# EAGLE library part MCIMX6Q7CVT08AD (library circuit_tree)
IC
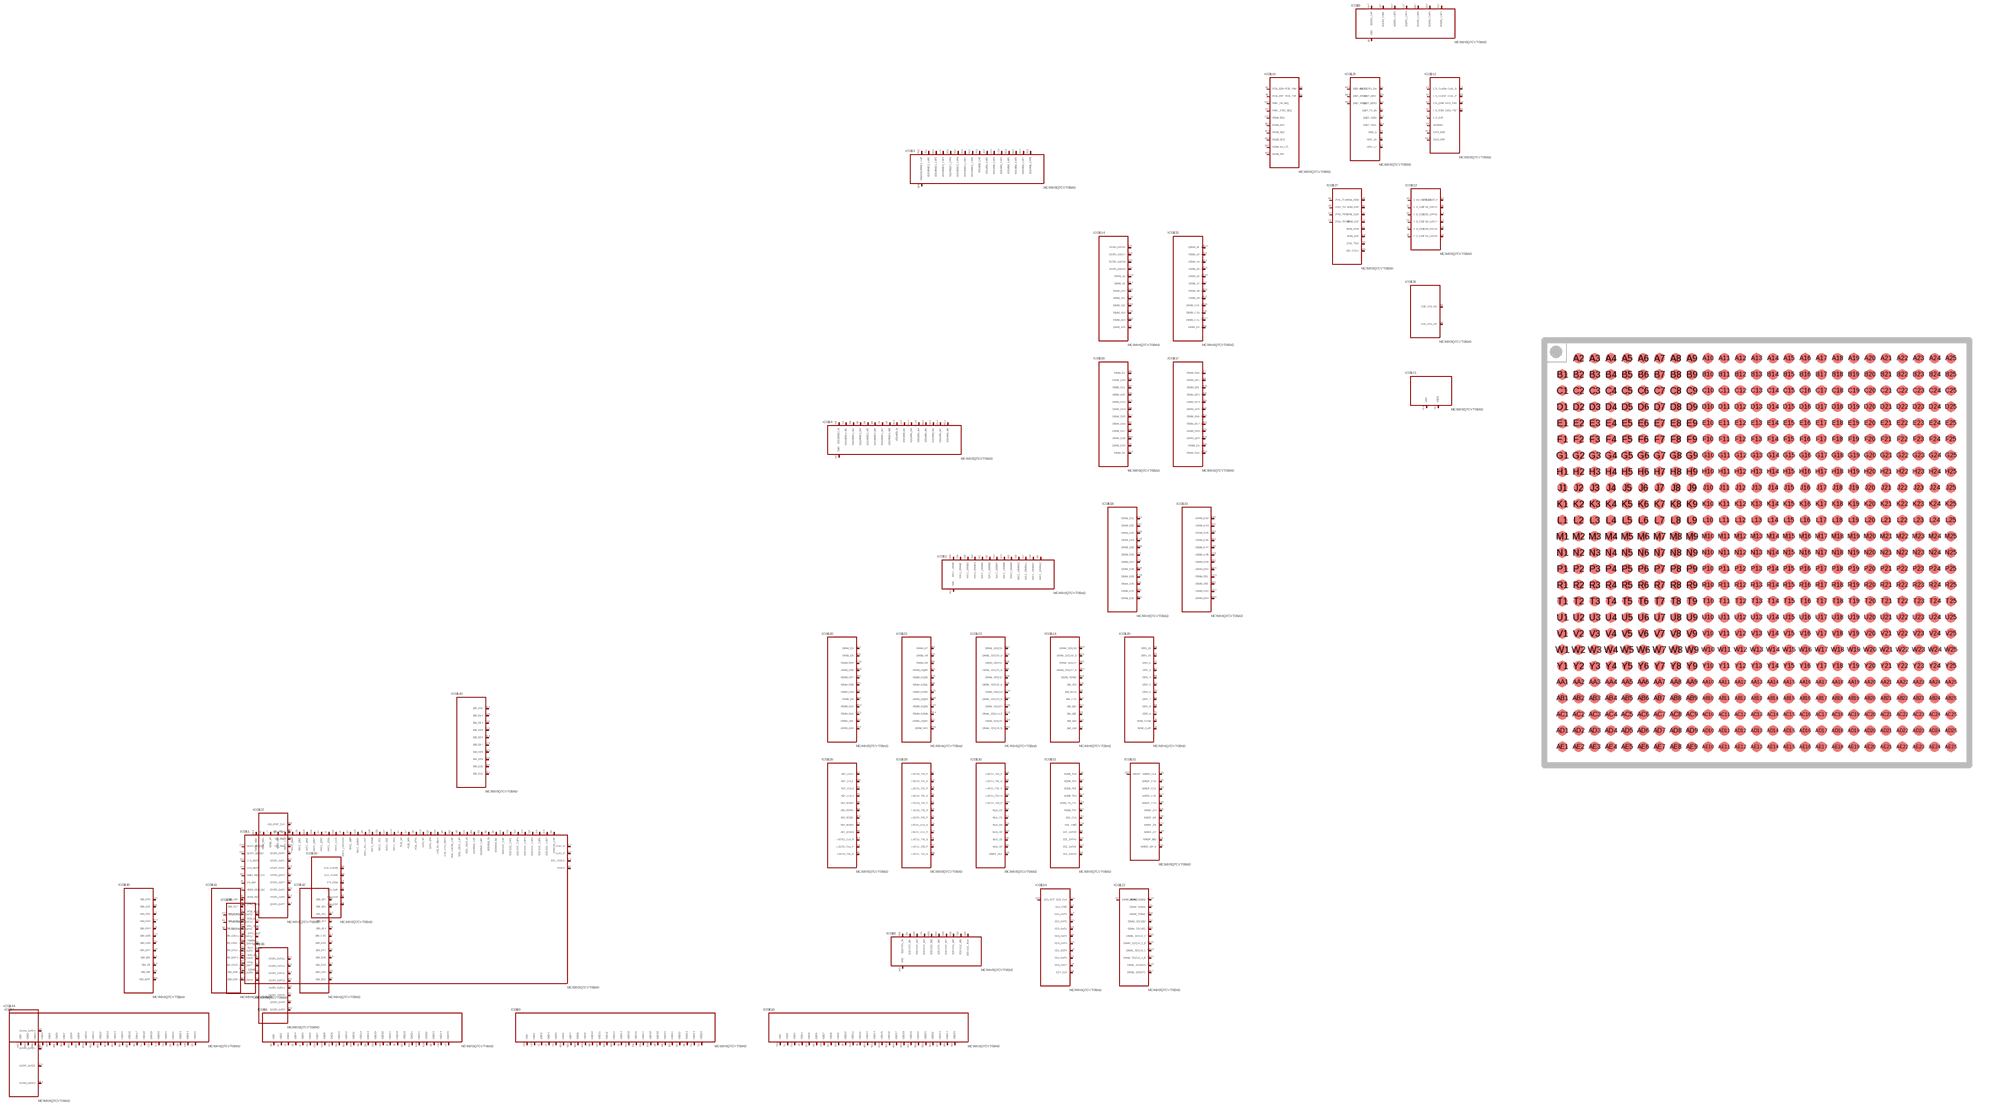
[diagram p10: symbol with the pads of BGA624N80P25X25_210X210X20; footprint BGA624N80P25X25_210X210X20]

Designator prefix IC; gates G$1=MCIMX6Q7CVT08AD G$2=MCIMX6Q7CVT08AD2 G$3=MCIMX6Q7CVT08AD3 G$4=MCIMX6Q7CVT08AD4 G$5=MCIMX6Q7CVT08AD5 G$6=MCIMX6Q7CVT08AD6 G$7=MCIMX6Q7CVT08AD7 G$8=MCIMX6Q7CVT08AD8 G$9=MCIMX6Q7CVT08AD9 G$10=MCIMX6Q7CVT08AD10 G$11=MCIMX6Q7CVT08AD11 G$12=MCIMX6Q7CVT08AD12 G$13=MCIMX6Q7CVT08AD13 G$14=MCIMX6Q7CVT08AD14 G$15=MCIMX6Q7CVT08AD15 G$16=MCIMX6Q7CVT08AD16 G$17=MCIMX6Q7CVT08AD17 G$18=MCIMX6Q7CVT08AD18 G$19=MCIMX6Q7CVT08AD19 G$20=MCIMX6Q7CVT08AD20 G$21=MCIMX6Q7CVT08AD21 G$22=MCIMX6Q7CVT08AD22 G$23=MCIMX6Q7CVT08AD23 G$24=MCIMX6Q7CVT08AD24 G$25=MCIMX6Q7CVT08AD25 G$26=MCIMX6Q7CVT08AD26 G$27=MCIMX6Q7CVT08AD27 G$28=MCIMX6Q7CVT08AD28 G$29=MCIMX6Q7CVT08AD29 G$30=MCIMX6Q7CVT08AD30 G$31=MCIMX6Q7CVT08AD31 G$32=MCIMX6Q7CVT08AD32 G$33=MCIMX6Q7CVT08AD33 G$34=MCIMX6Q7CVT08AD34 G$35=MCIMX6Q7CVT08AD35 G$36=MCIMX6Q7CVT08AD36 G$37=MCIMX6Q7CVT08AD37 G$38=MCIMX6Q7CVT08AD38 G$39=MCIMX6Q7CVT08AD39 G$40=MCIMX6Q7CVT08AD40 G$41=MCIMX6Q7CVT08AD41 G$42=MCIMX6Q7CVT08AD42 G$43=MCIMX6Q7CVT08AD43 G$44=MCIMX6Q7CVT08AD44

## MCIMX6Q7CVT08AD  [BGA624N80P25X25_210X210X20]
A2  G$1:PCIE_REXT  pas
A3  G$32:PCIE_TXM  pas
A4  G$4:GND  pas
A5  G$1:FA_ANA  pas
A6  G$35:USB_OTG_DP  pas
A7  G$1:XTALI  pas
A8  G$5:GND  pas
A9  G$30:MLB_SN  pas
A10  G$30:MLB_DP  pas
A11  G$30:MLB_CN  pas
A12  G$12:SATA_TXP  pas
A13  G$2:GND  pas
A14  G$12:SATA_RXM  pas
A15  G$34:SD3_DAT2  pas
A16  G$30:NANDF_ALE  pas
A17  G$31:NANDF_CS2  pas
A19  G$31:NANDF_D4  pas
A22  G$33:SD2_DATA0  pas
A23  G$33:SD2_DATA2  pas
A24  G$33:RGMII_TD3  pas
A25  G$3:GND  pas
AA1  G$30:LVDS1_TX1_P  pas
AA2  G$29:LVDS1_TX1_N  pas
AA3  G$30:LVDS1_TX3_N  pas
AA4  G$30:LVDS1_TX3_P  pas
AA5  G$17:DRAM_D3  pas
AA6  G$16:DRAM_D10  pas
AA7  G$7:GND5  pas
AA8  G$16:DRAM_D17  pas
AA9  G$17:DRAM_D23  pas
AA10  G$6:GND  pas
AA11  G$22:DRAM_SDCKE1  pas
AA12  G$14:DRAM_A14  pas
AA13  G$7:GND  pas
AA14  G$15:DRAM_A2  pas
AA15  G$14:DRAM_A10  pas
AA16  G$7:GND2  pas
AA17  G$18:DRAM_D32  pas
AA18  G$18:DRAM_D33  pas
AA19  G$7:GND3  pas
AA20  G$19:DRAM_D45  pas
AA21  G$20:DRAM_D57  pas
AA22  G$7:GND4  pas
AA23  G$20:DRAM_D61  pas
AA24  G$24:DRAM_SDQS7_B  pas
AA25  G$24:DRAM_SDQS7  pas
AB1  G$30:LVDS1_TX2_N  pas
AB2  G$30:LVDS1_TX2_P  pas
AB3  G$7:GND7  pas
AB4  G$20:DRAM_D6  pas
AB5  G$16:DRAM_D12  pas
AB6  G$16:DRAM_D14  pas
AB7  G$16:DRAM_D16  pas
AB8  G$21:DRAM_DQM2  pas
AB9  G$16:DRAM_D18  pas
AB10  G$23:DRAM_SDQS3_B  pas
AB11  G$17:DRAM_D27  pas
AB12  G$22:DRAM_SDBA2  pas
AB13  G$15:DRAM_A8  pas
AB14  G$14:DRAM_A1  pas
AB15  G$21:DRAM_RAS  pas
AB16  G$24:DRAM_SDWE  pas
AB17  G$22:DRAM_SDODT1  pas
AB18  G$21:DRAM_DQM4  pas
AB19  G$18:DRAM_D38  pas
AB20  G$18:DRAM_D41  pas
AB21  G$18:DRAM_D42  pas
AB22  G$19:DRAM_D52  pas
AB23  G$20:DRAM_D60  pas
AB24  G$7:GND6  pas
AB25  G$20:DRAM_D56  pas
AC1  G$20:DRAM_D4  pas
AC2  G$1:DRAM_VREF  pas
AC3  G$21:DRAM_DQM0  pas
AC4  G$16:DRAM_D2  pas
AC5  G$16:DRAM_D13  pas
AC6  G$21:DRAM_DQM1  pas
AC7  G$16:DRAM_D15  pas
AC8  G$17:DRAM_D22  pas
AC9  G$17:DRAM_D28  pas
AC10  G$23:DRAM_SDQS3  pas
AC11  G$18:DRAM_D31  pas
AC12  G$14:DRAM_A11  pas
AC13  G$15:DRAM_A6  pas
AC14  G$14:DRAM_A0  pas
AC15  G$22:DRAM_SDBA0  pas
AC16  G$22:DRAM_SDODT0  pas
AC17  G$14:DRAM_A13  pas
AC18  G$18:DRAM_D34  pas
AC19  G$18:DRAM_D39  pas
AC20  G$21:DRAM_DQM5  pas
AC21  G$19:DRAM_D47  pas
AC22  G$19:DRAM_D48  pas
AC23  G$19:DRAM_D53  pas
AC24  G$19:DRAM_D51  pas
AC25  G$20:DRAM_D55  pas
AD1  G$20:DRAM_D5  pas
AD2  G$15:DRAM_D0  pas
AD3  G$23:DRAM_SDQS0_B  pas
AD4  G$7:GND13  pas
AD5  G$21:DRAM_D8  pas
AD6  G$23:DRAM_SDQS1  pas
AD7  G$7:GND14  pas
AD8  G$23:DRAM_SDQS2  pas
AD9  G$17:DRAM_D29  pas
AD10  G$7:GND8  pas
AD11  G$17:DRAM_D30  pas
AD12  G$14:DRAM_A12  pas
AD13  G$7:GND9  pas
AD14  G$22:DRAM_SDCLK_1  pas
AD15  G$22:DRAM_SDCLK_0  pas
AD16  G$7:GND10  pas
AD17  G$15:DRAM_CS1  pas
AD18  G$23:DRAM_SDQS4  pas
AD19  G$7:GND11  pas
AD20  G$23:DRAM_SDQS5  pas
AD21  G$19:DRAM_D43  pas
AD22  G$7:GND12  pas
AD23  G$24:DRAM_SDQS6  pas
AD24  G$21:DRAM_DQM6  pas
AD25  G$19:DRAM_D54  pas
AE1  G$7:GND15  pas
AE2  G$16:DRAM_D1  pas
AE3  G$23:DRAM_SDQS0  pas
AE4  G$21:DRAM_D7  pas
AE5  G$21:DRAM_D9  pas
AE6  G$23:DRAM_SDQS1_B  pas
AE7  G$16:DRAM_D11  pas
AE8  G$23:DRAM_SDQS2_B  pas
AE9  G$17:DRAM_D24  pas
AE10  G$21:DRAM_DQM3  pas
AE11  G$17:DRAM_D26  pas
AE12  G$15:DRAM_A9  pas
AE13  G$15:DRAM_A5  pas
AE14  G$22:DRAM_SDCLK_1_B  pas
AE15  G$22:DRAM_SDCLK_0_B  pas
AE16  G$15:DRAM_CAS  pas
AE17  G$1:ZQPAD  pas
AE18  G$23:DRAM_SDQS4_B  pas
AE19  G$18:DRAM_D35  pas
AE20  G$23:DRAM_SDQS5_B  pas
AE21  G$19:DRAM_D46  pas
AE22  G$19:DRAM_D49  pas
AE23  G$24:DRAM_SDQS6_B  pas
AE24  G$19:DRAM_D50  pas
AE25  G$7:GND16  pas
B1  G$32:PCIE_RXM  pas
B2  G$32:PCIE_RXP  pas
B3  G$32:PCIE_TXP  pas
B4  G$7:GND17  pas
B5  G$1:VDD_FA  pas
B6  G$35:USB_OTG_DN  pas
B7  G$1:XTALO  pas
B9  G$30:MLB_SP  pas
B10  G$30:MLB_DN  pas
B11  G$30:MLB_CP  pas
B12  G$12:SATA_TXM  pas
B13  G$34:SD3_CMD  pas
B14  G$12:SATA_RXP  pas
B15  G$34:SD3_DAT3  pas
B16  G$31:NANDF_RB0  pas
B18  G$31:NANDF_D5  pas
B22  G$33:SD2_DATA3  pas
B23  G$32:RGMII_RD1  pas
B24  G$32:RGMII_RD2  pas
B25  G$32:RGMII_RXC  pas
C1  G$7:GND18  pas
C2  G$27:JTAG_TRSTB  pas
C3  G$27:JTAG_TMS  pas
C4  G$7:GND20  pas
C5  G$12:CLK2_N  pas
C6  G$7:GND21  pas
C7  G$1:CLK1_N  pas
C8  G$12:GPANAIO  pas
C9  G$1:RTC_XTALO  pas
C10  G$7:GND19  pas
C11  G$1:POR_B  pas
C12  G$1:BOOT_MODE0  pas
C13  G$34:SD3_DAT5  pas
C14  G$1:SATA_REXT  pas
C15  G$31:NANDF_CLE  pas
C16  G$31:NANDF_CS1  pas
C18  G$31:NANDF_D7  pas
C21  G$33:SD2_CLK  pas
C22  G$33:RGMII_TD0  pas
C23  G$33:RGMII_TX_CTL  pas
C24  G$32:RGMII_RD0  pas
C25  G$42:EIM_D16  pas
D1  G$13:CSI_D1M  pas
D2  G$13:CSI_D1P  pas
D3  G$7:GND22  pas
D4  G$1:CSI_REXT  pas
D5  G$12:CLK2_P  pas
D6  G$7:GND23  pas
D7  G$1:CLK1_P  pas
D8  G$7:GND24  pas
D9  G$1:RTC_XTALI  pas
D10  G$1:USB_H1_VBUS  pas
D11  G$32:PMIC_ON_REQ  pas
D12  G$31:ONOFF  pas
D13  G$34:SD3_DAT4  pas
D14  G$34:SD3_CLK  pas
D15  G$34:SD3_RST  pas
D16  G$31:NANDF_CS3  pas
D21  G$33:RGMII_TXC  pas
D22  G$32:RGMII_RX_CTL  pas
D23  G$32:RGMII_RD3  pas
D24  G$42:EIM_D18  pas
D25  G$43:EIM_D23  pas
E1  G$13:CSI_D2M  pas
E2  G$13:CSI_D2P  pas
E3  G$13:CSI_D0P  pas
E4  G$12:CSI_D0M  pas
E5  G$7:GND25  pas
E6  G$8:GND  pas
E7  G$8:GND2  pas
E8  G$1:NVCC_PLL_OUT  pas
E9  G$1:USB_OTG_VBUS  pas
E11  G$1:TAMPER  pas
E12  G$1:TEST_MODE  pas
E13  G$34:SD3_DAT6  pas
E14  G$34:SD3_DAT0  pas
E15  G$31:NANDF_WP_B  pas
E16  G$34:SD4_CLK  pas
E17  G$31:NANDF_D6  pas
E20  G$33:SD2_DATA1  pas
E21  G$33:RGMII_TD2  pas
E22  G$24:EIM_EB2  pas
E23  G$43:EIM_D22  pas
E24  G$43:EIM_D26  pas
E25  G$43:EIM_D27  pas
F1  G$12:CSI_D3P  pas
F2  G$12:CSI_D3M  pas
F3  G$12:CSI_CLK0P  pas
F4  G$12:CSI_CLK0M  pas
F5  G$8:GND3  pas
F6  G$8:GND4  pas
F7  G$8:GND5  pas
F8  G$8:GND6  pas
F9  G$1:VDDUSB_CAP  pas
F11  G$32:PMIC_STBY_REQ  pas
F12  G$1:BOOT_MODE1  pas
F13  G$34:SD3_DAT7  pas
F14  G$34:SD3_DAT1  pas
F15  G$31:NANDF_CS0  pas
F19  G$33:SD2_CMD  pas
F20  G$33:RGMII_TD1  pas
F21  G$42:EIM_D17  pas
F22  G$43:EIM_D24  pas
F23  G$24:EIM_EB3  pas
F24  G$42:EIM_A22  pas
F25  G$42:EIM_A24  pas
G1  G$39:DSI_D0P  pas
G2  G$39:DSI_D0M  pas
G3  G$8:GND9  pas
G4  G$1:DSI_REXT  pas
G5  G$27:JTAG_TDI  pas
G6  G$27:JTAG_TDO  pas
G7  G$1:PCIE_VPH  pas
G8  G$1:PCIE_VPTX  pas
G9  G$1:VDD_SNVS_CAP  pas
G10  G$8:GND7  pas
G11  G$1:VDD_SNVS_IN  pas
G12  G$1:SATA_VPH  pas
G13  G$1:SATA_VP  pas
G14  G$1:NVCC_SD3  pas
G15  G$1:NVCC_NANDF  pas
G16  G$1:NVCC_SD1  pas
G17  G$1:NVCC_SD2  pas
G18  G$1:NVCC_RGMII  pas
G19  G$8:GND8  pas
G20  G$42:EIM_D20  pas
G21  G$42:EIM_D19  pas
G22  G$43:EIM_D25  pas
G23  G$43:EIM_D28  pas
G24  G$41:EIM_A17  pas
G25  G$41:EIM_A19  pas
H1  G$39:DSI_D1P  pas
H2  G$39:DSI_D1M  pas
H3  G$39:DSI_CLK0M  pas
H4  G$39:DSI_CLK0P  pas
H5  G$27:JTAG_TCK  pas
H6  G$1:JTAG_MOD  pas
H7  G$1:PCIE_VP  pas
H8  G$8:GND13  pas
H9  G$1:VDDHIGH_IN  pas
H10  G$1:VDDHIGH_CAP  pas
H11  G$3:VDDARM23_CAP  pas
H12  G$8:GND10  pas
H13  G$3:VDDARM_CAP  pas
H14  G$4:VDDARM_IN  pas
H15  G$8:GND11  pas
H16  G$6:VDDSOC_IN  pas
H17  G$5:VDDPU_CAP  pas
H18  G$8:GND12  pas
H19  G$24:EIM_A25  pas
H20  G$42:EIM_D21  pas
H21  G$43:EIM_D31  pas
H22  G$42:EIM_A20  pas
H23  G$42:EIM_A21  pas
H24  G$42:EIM_CS0  pas
H25  G$41:EIM_A16  pas
J1  G$1:HDMI_REF  pas
J2  G$8:GND17  pas
J3  G$27:HDMI_D1M  pas
J4  G$27:HDMI_D1P  pas
J5  G$26:HDMI_CLKM  pas
J6  G$26:HDMI_CLKP  pas
J7  G$1:NVCC_JTAG  pas
J8  G$8:GND18  pas
J9  G$1:VDDHIGH_IN2  pas
J10  G$1:VDDHIGH_CAP2  pas
J11  G$3:VDDARM23_CAP2  pas
J12  G$8:GND14  pas
J13  G$3:VDDARM_CAP2  pas
J14  G$4:VDDARM_IN2  pas
J15  G$8:GND15  pas
J16  G$6:VDDSOC_IN2  pas
J17  G$5:VDDPU_CAP2  pas
J18  G$8:GND16  pas
J19  G$43:EIM_D29  pas
J20  G$43:EIM_D30  pas
J21  G$42:EIM_A23  pas
J22  G$41:EIM_A18  pas
J23  G$24:EIM_CS1  pas
J24  G$40:EIM_OE  pas
J25  G$40:EIM_DA1  pas
K1  G$1:HDMI_HPD  pas
K2  G$1:HDMI_DDCCEC  pas
K3  G$27:HDMI_D2M  pas
K4  G$27:HDMI_D2P  pas
K5  G$27:HDMI_D0M  pas
K6  G$27:HDMI_D0P  pas
K7  G$1:NVCC_MIPI  pas
K8  G$8:GND23  pas
K9  G$4:VDDARM23_IN  pas
K10  G$8:GND19  pas
K11  G$3:VDDARM23_CAP3  pas
K12  G$8:GND20  pas
K13  G$3:VDDARM_CAP3  pas
K14  G$4:VDDARM_IN3  pas
K15  G$8:GND21  pas
K16  G$6:VDDSOC_IN3  pas
K17  G$5:VDDPU_CAP3  pas
K18  G$8:GND22  pas
K19  G$1:NVCC_EIM0  pas
K20  G$40:EIM_RW  pas
K21  G$40:EIM_EB0  pas
K22  G$24:EIM_LBA  pas
K23  G$24:EIM_EB1  pas
K24  G$40:EIM_DA3  pas
K25  G$40:EIM_DA6  pas
L1  G$36:CSI0_DAT13  pas
L2  G$9:GND3  pas
L3  G$13:CSI0_DAT17  pas
L4  G$13:CSI0_DAT16  pas
L5  G$9:GND4  pas
L6  G$13:CSI0_DAT19  pas
L7  G$1:HDMI_VP  pas
L8  G$9:GND5  pas
L9  G$4:VDDARM23_IN2  pas
L10  G$8:GND24  pas
L11  G$3:VDDARM23_CAP4  pas
L12  G$8:GND25  pas
L13  G$3:VDDARM_CAP4  pas
L14  G$4:VDDARM_IN4  pas
L15  G$9:GND  pas
L16  G$6:VDDSOC_IN4  pas
L17  G$5:VDDPU_CAP4  pas
L18  G$9:GND2  pas
L19  G$1:NVCC_EIM1  pas
L20  G$40:EIM_DA0  pas
L21  G$40:EIM_DA2  pas
L22  G$40:EIM_DA4  pas
L23  G$40:EIM_DA5  pas
L24  G$41:EIM_DA8  pas
L25  G$40:EIM_DA7  pas
M1  G$36:CSI0_DAT10  pas
M2  G$36:CSI0_DAT12  pas
M3  G$36:CSI0_DAT11  pas
M4  G$13:CSI0_DAT14  pas
M5  G$13:CSI0_DAT15  pas
M6  G$13:CSI0_DAT18  pas
M7  G$1:HDMI_VPH  pas
M8  G$9:GND10  pas
M9  G$4:VDDARM23_IN3  pas
M10  G$9:GND6  pas
M11  G$3:VDDARM23_CAP5  pas
M12  G$9:GND7  pas
M13  G$3:VDDARM_CAP5  pas
M14  G$4:VDDARM_IN5  pas
M15  G$9:GND8  pas
M16  G$6:VDDSOC_IN5  pas
M17  G$5:VDDPU_CAP5  pas
M18  G$9:GND9  pas
M19  G$1:NVCC_EIM2  pas
M20  G$41:EIM_DA11  pas
M21  G$41:EIM_DA9  pas
M22  G$41:EIM_DA10  pas
M23  G$41:EIM_DA13  pas
M24  G$41:EIM_DA12  pas
M25  G$40:EIM_WAIT  pas
N1  G$36:CSI0_DAT4  pas
N2  G$36:CSI0_VSYNC  pas
N3  G$36:CSI0_DAT7  pas
N4  G$36:CSI0_DAT6  pas
N5  G$36:CSI0_DAT9  pas
N6  G$36:CSI0_DAT8  pas
N7  G$1:NVCC_CSI  pas
N8  G$9:GND14  pas
N9  G$4:VDDARM23_IN4  pas
N10  G$9:GND11  pas
N11  G$3:VDDARM23_CAP6  pas
N12  G$1:VDD_CACHE_CAP  pas
N13  G$3:VDDARM_CAP6  pas
N14  G$4:VDDARM_IN6  pas
N15  G$9:GND12  pas
N16  G$6:VDDSOC_IN6  pas
N17  G$5:VDDPU_CAP6  pas
N18  G$9:GND13  pas
N19  G$37:DI0_DISP_CLK  pas
N20  G$37:DI0_PIN3  pas
N21  G$37:DI0_PIN15  pas
N22  G$24:EIM_BCLK  pas
N23  G$41:EIM_DA14  pas
N24  G$41:EIM_DA15  pas
N25  G$37:DI0_PIN2  pas
P1  G$36:CSI0_PIXCLK  pas
P2  G$36:CSI0_DAT5  pas
P3  G$13:CSI0_DATA_EN  pas
P4  G$36:CSI0_HSYNC  pas
P5  G$26:GPIO_19  pas
P6  G$26:GPIO_18  pas
P7  G$1:NVCC_GPIO  pas
P8  G$9:GND19  pas
P9  G$4:VDDARM23_IN5  pas
P10  G$9:GND15  pas
P11  G$3:VDDARM23_CAP7  pas
P12  G$9:GND16  pas
P13  G$3:VDDARM_CAP7  pas
P14  G$4:VDDARM_IN7  pas
P15  G$9:GND17  pas
P16  G$6:VDDSOC_IN7  pas
P17  G$5:VDDPU_CAP7  pas
P18  G$9:GND18  pas
P19  G$1:NVCC_LCD  pas
P20  G$37:DISP0_DAT4  pas
P21  G$37:DISP0_DAT3  pas
P22  G$37:DISP0_DAT1  pas
P23  G$37:DISP0_DAT2  pas
P24  G$37:DISP0_DAT0  pas
R1  G$25:GPIO_17  pas
R2  G$25:GPIO_16  pas
R3  G$26:GPIO_7  pas
R4  G$26:GPIO_5  pas
R5  G$26:GPIO_8  pas
R6  G$26:GPIO_4  pas
R7  G$26:GPIO_3  pas
R8  G$9:GND23  pas
R9  G$4:VDDARM23_IN6  pas
R10  G$1:VDDSOC_CAP  pas
R11  G$3:VDDARM23_CAP8  pas
R12  G$9:GND20  pas
R13  G$3:VDDARM_CAP8  pas
R14  G$4:VDDARM_IN8  pas
R15  G$9:GND21  pas
R16  G$6:VDDSOC_IN8  pas
R17  G$9:GND22  pas
R18  G$2:NVCC_DRAM  pas
R19  G$1:NVCC_ENET  pas
R20  G$38:DISP0_DAT13  pas
R21  G$38:DISP0_DAT10  pas
R22  G$38:DISP0_DAT8  pas
R23  G$37:DISP0_DAT6  pas
R24  G$37:DISP0_DAT7  pas
R25  G$37:DISP0_DAT5  pas
T1  G$26:GPIO_2  pas
T2  G$26:GPIO_9  pas
T3  G$26:GPIO_6  pas
T5  G$25:GPIO_0  pas
T6  G$28:KEY_COL4  pas
T7  G$28:KEY_ROW3  pas
T8  G$10:GND4  pas
T9  G$4:VDDARM23_IN7  pas
T10  G$1:VDDSOC_CAP2  pas
T11  G$9:GND24  pas
T12  G$9:GND25  pas
T13  G$1:VDDSOC_CAP3  pas
T14  G$1:VDDSOC_CAP4  pas
T15  G$10:GND  pas
T16  G$6:VDDSOC_IN9  pas
T17  G$10:GND2  pas
T18  G$2:NVCC_DRAM2  pas
T19  G$10:GND3  pas
T20  G$44:DISP0_DAT21  pas
T21  G$14:DISP0_DAT16  pas
T22  G$38:DISP0_DAT15  pas
T23  G$38:DISP0_DAT11  pas
T24  G$38:DISP0_DAT12  pas
T25  G$38:DISP0_DAT9  pas
U1  G$29:LVDS0_TX0_P  pas
U2  G$28:LVDS0_TX0_N  pas
U3  G$29:LVDS0_TX1_P  pas
U4  G$29:LVDS0_TX1_N  pas
U5  G$28:KEY_COL3  pas
U6  G$28:KEY_ROW1  pas
U7  G$28:KEY_COL1  pas
U8  G$10:GND10  pas
U9  G$4:VDDARM23_IN8  pas
U10  G$1:VDDSOC_CAP5  pas
U11  G$10:GND5  pas
U12  G$10:GND6  pas
U13  G$1:VDDSOC_CAP6  pas
U14  G$1:VDDSOC_CAP7  pas
U15  G$10:GND7  pas
U16  G$6:VDDSOC_IN10  pas
U17  G$10:GND8  pas
U18  G$2:NVCC_DRAM3  pas
U19  G$10:GND9  pas
U20  G$25:ENET_TXD0  pas
U21  G$25:ENET_CRS_DV  pas
U22  G$44:DISP0_DAT20  pas
U23  G$14:DISP0_DAT19  pas
U24  G$14:DISP0_DAT17  pas
U25  G$38:DISP0_DAT14  pas
V1  G$29:LVDS0_TX2_P  pas
V2  G$29:LVDS0_TX2_N  pas
V3  G$28:LVDS0_CLK_P  pas
V4  G$28:LVDS0_CLK_N  pas
V5  G$28:KEY_ROW4  pas
V6  G$28:KEY_ROW0  pas
V7  G$1:NVCC_LVDS2P5  pas
V8  G$10:GND12  pas
V9  G$2:NVCC_DRAM13  pas
V10  G$2:NVCC_DRAM4  pas
V11  G$2:NVCC_DRAM5  pas
V12  G$2:NVCC_DRAM6  pas
V13  G$2:NVCC_DRAM7  pas
V14  G$2:NVCC_DRAM8  pas
V15  G$2:NVCC_DRAM9  pas
V16  G$2:NVCC_DRAM10  pas
V17  G$2:NVCC_DRAM11  pas
V18  G$2:NVCC_DRAM12  pas
V19  G$10:GND11  pas
V20  G$25:ENET_MDC  pas
V21  G$25:ENET_TX_EN  pas
V22  G$1:ENET_REF_CLK  pas
V23  G$25:ENET_MDIO  pas
V24  G$44:DISP0_DAT22  pas
V25  G$14:DISP0_DAT18  pas
W1  G$29:LVDS0_TX3_P  pas
W2  G$29:LVDS0_TX3_N  pas
W3  G$10:GND22  pas
W4  G$28:KEY_ROW2  pas
W5  G$27:KEY_COL0  pas
W6  G$28:KEY_COL2  pas
W7  G$10:GND23  pas
W8  G$10:GND24  pas
W9  G$10:GND25  pas
W10  G$10:GND13  pas
W11  G$10:GND14  pas
W12  G$10:GND15  pas
W13  G$10:GND16  pas
W14  G$15:DRAM_A4  pas
W15  G$10:GND17  pas
W16  G$10:GND18  pas
W17  G$10:GND19  pas
W18  G$10:GND20  pas
W19  G$10:GND21  pas
W20  G$25:ENET_TXD1  pas
W21  G$25:ENET_RXD0  pas
W22  G$25:ENET_RXD1  pas
W23  G$25:ENET_RX_ER  pas
W24  G$44:DISP0_DAT23  pas
W25  G$20:DRAM_D63  pas
Y1  G$29:LVDS1_TX0_N  pas
Y2  G$29:LVDS1_TX0_P  pas
Y3  G$29:LVDS1_CLK_N  pas
Y4  G$29:LVDS1_CLK_P  pas
Y5  G$11:GND2  pas
Y6  G$22:DRAM_RESET  pas
Y7  G$17:DRAM_D20  pas
Y8  G$17:DRAM_D21  pas
Y9  G$16:DRAM_D19  pas
Y10  G$17:DRAM_D25  pas
Y11  G$22:DRAM_SDCKE0  pas
Y12  G$14:DRAM_A15  pas
Y13  G$15:DRAM_A7  pas
Y14  G$15:DRAM_A3  pas
Y15  G$22:DRAM_SDBA1  pas
Y16  G$15:DRAM_CS0  pas
Y17  G$18:DRAM_D36  pas
Y18  G$18:DRAM_D37  pas
Y19  G$18:DRAM_D40  pas
Y20  G$19:DRAM_D44  pas
Y21  G$21:DRAM_DQM7  pas
Y22  G$20:DRAM_D59  pas
Y23  G$20:DRAM_D62  pas
Y24  G$11:GND  pas
Y25  G$20:DRAM_D58  pas

## Footprint BGA624N80P25X25_210X210X20 (pad centres in mm)
smd 0.5 x 0.5: A2 -8.8,9.6; A3 -8,9.6; A4 -7.2,9.6; A5 -6.4,9.6; A6 -5.6,9.6; A7 -4.8,9.6; A8 -4,9.6; A9 -3.2,9.6; A10 -2.4,9.6; A11 -1.6,9.6; A12 -0.8,9.6; A13 0,9.6; A14 0.8,9.6; A15 1.6,9.6; A16 2.4,9.6; A17 3.2,9.6; A18 4,9.6; A19 4.8,9.6; A20 5.6,9.6; A21 6.4,9.6; A22 7.2,9.6; A23 8,9.6; A24 8.8,9.6; A25 9.6,9.6; AA1 -9.6,-6.4; AA2 -8.8,-6.4; AA3 -8,-6.4; AA4 -7.2,-6.4; AA5 -6.4,-6.4; AA6 -5.6,-6.4; AA7 -4.8,-6.4; AA8 -4,-6.4; AA9 -3.2,-6.4; AA10 -2.4,-6.4; AA11 -1.6,-6.4; AA12 -0.8,-6.4; AA13 0,-6.4; AA14 0.8,-6.4; AA15 1.6,-6.4; AA16 2.4,-6.4; AA17 3.2,-6.4; AA18 4,-6.4; AA19 4.8,-6.4; AA20 5.6,-6.4; AA21 6.4,-6.4; AA22 7.2,-6.4; AA23 8,-6.4; AA24 8.8,-6.4; AA25 9.6,-6.4; AB1 -9.6,-7.2; AB2 -8.8,-7.2; AB3 -8,-7.2; AB4 -7.2,-7.2; AB5 -6.4,-7.2; AB6 -5.6,-7.2; AB7 -4.8,-7.2; AB8 -4,-7.2; AB9 -3.2,-7.2; AB10 -2.4,-7.2; AB11 -1.6,-7.2; AB12 -0.8,-7.2; AB13 0,-7.2; AB14 0.8,-7.2; AB15 1.6,-7.2; AB16 2.4,-7.2; AB17 3.2,-7.2; AB18 4,-7.2; AB19 4.8,-7.2; AB20 5.6,-7.2; AB21 6.4,-7.2; AB22 7.2,-7.2; AB23 8,-7.2; AB24 8.8,-7.2; AB25 9.6,-7.2; AC1 -9.6,-8; AC2 -8.8,-8; AC3 -8,-8; AC4 -7.2,-8; AC5 -6.4,-8; AC6 -5.6,-8; AC7 -4.8,-8; AC8 -4,-8; AC9 -3.2,-8; AC10 -2.4,-8; AC11 -1.6,-8; AC12 -0.8,-8; AC13 0,-8; AC14 0.8,-8; AC15 1.6,-8; AC16 2.4,-8; AC17 3.2,-8; AC18 4,-8; AC19 4.8,-8; AC20 5.6,-8; AC21 6.4,-8; AC22 7.2,-8; AC23 8,-8; AC24 8.8,-8; AC25 9.6,-8; AD1 -9.6,-8.8; AD2 -8.8,-8.8; AD3 -8,-8.8; AD4 -7.2,-8.8; AD5 -6.4,-8.8; AD6 -5.6,-8.8; AD7 -4.8,-8.8; AD8 -4,-8.8; AD9 -3.2,-8.8; AD10 -2.4,-8.8; AD11 -1.6,-8.8; AD12 -0.8,-8.8; AD13 0,-8.8; AD14 0.8,-8.8; AD15 1.6,-8.8; AD16 2.4,-8.8; AD17 3.2,-8.8; AD18 4,-8.8; AD19 4.8,-8.8; AD20 5.6,-8.8; AD21 6.4,-8.8; AD22 7.2,-8.8; AD23 8,-8.8; AD24 8.8,-8.8; AD25 9.6,-8.8; AE1 -9.6,-9.6; AE2 -8.8,-9.6; AE3 -8,-9.6; AE4 -7.2,-9.6; AE5 -6.4,-9.6; AE6 -5.6,-9.6; AE7 -4.8,-9.6; AE8 -4,-9.6; AE9 -3.2,-9.6; AE10 -2.4,-9.6; AE11 -1.6,-9.6; AE12 -0.8,-9.6; AE13 0,-9.6; AE14 0.8,-9.6; AE15 1.6,-9.6; AE16 2.4,-9.6; AE17 3.2,-9.6; AE18 4,-9.6; AE19 4.8,-9.6; AE20 5.6,-9.6; AE21 6.4,-9.6; AE22 7.2,-9.6; AE23 8,-9.6; AE24 8.8,-9.6; AE25 9.6,-9.6; B1 -9.6,8.8; B2 -8.8,8.8; B3 -8,8.8; B4 -7.2,8.8; B5 -6.4,8.8; B6 -5.6,8.8; B7 -4.8,8.8; B8 -4,8.8; B9 -3.2,8.8; B10 -2.4,8.8; B11 -1.6,8.8; B12 -0.8,8.8; B13 0,8.8; B14 0.8,8.8; B15 1.6,8.8; B16 2.4,8.8; B17 3.2,8.8; B18 4,8.8; B19 4.8,8.8; B20 5.6,8.8; B21 6.4,8.8; B22 7.2,8.8; B23 8,8.8; B24 8.8,8.8; B25 9.6,8.8; C1 -9.6,8; C2 -8.8,8; C3 -8,8; C4 -7.2,8; C5 -6.4,8; C6 -5.6,8; C7 -4.8,8; C8 -4,8; C9 -3.2,8; C10 -2.4,8; C11 -1.6,8; C12 -0.8,8; C13 0,8; C14 0.8,8; C15 1.6,8; C16 2.4,8; C17 3.2,8; C18 4,8; C19 4.8,8; C20 5.6,8; C21 6.4,8; C22 7.2,8; C23 8,8; C24 8.8,8; C25 9.6,8; D1 -9.6,7.2; D2 -8.8,7.2; D3 -8,7.2; D4 -7.2,7.2; D5 -6.4,7.2; D6 -5.6,7.2; D7 -4.8,7.2; D8 -4,7.2; D9 -3.2,7.2; D10 -2.4,7.2; D11 -1.6,7.2; D12 -0.8,7.2; D13 0,7.2; D14 0.8,7.2; D15 1.6,7.2; D16 2.4,7.2; D17 3.2,7.2; D18 4,7.2; D19 4.8,7.2; D20 5.6,7.2; D21 6.4,7.2; D22 7.2,7.2; D23 8,7.2; D24 8.8,7.2; D25 9.6,7.2; E1 -9.6,6.4; E2 -8.8,6.4; E3 -8,6.4; E4 -7.2,6.4; E5 -6.4,6.4; E6 -5.6,6.4; E7 -4.8,6.4; E8 -4,6.4; E9 -3.2,6.4; E10 -2.4,6.4; E11 -1.6,6.4; E12 -0.8,6.4; E13 0,6.4; E14 0.8,6.4; E15 1.6,6.4; E16 2.4,6.4; E17 3.2,6.4; E18 4,6.4; E19 4.8,6.4; E20 5.6,6.4; E21 6.4,6.4; E22 7.2,6.4; E23 8,6.4; E24 8.8,6.4; E25 9.6,6.4; F1 -9.6,5.6; F2 -8.8,5.6; F3 -8,5.6; F4 -7.2,5.6; F5 -6.4,5.6; F6 -5.6,5.6; F7 -4.8,5.6; F8 -4,5.6; F9 -3.2,5.6; F10 -2.4,5.6; F11 -1.6,5.6; F12 -0.8,5.6; F13 0,5.6; F14 0.8,5.6; F15 1.6,5.6; F16 2.4,5.6; F17 3.2,5.6; F18 4,5.6; F19 4.8,5.6; F20 5.6,5.6; F21 6.4,5.6; F22 7.2,5.6; F23 8,5.6; F24 8.8,5.6; F25 9.6,5.6; G1 -9.6,4.8; G2 -8.8,4.8; G3 -8,4.8; G4 -7.2,4.8; G5 -6.4,4.8; G6 -5.6,4.8; G7 -4.8,4.8; G8 -4,4.8; G9 -3.2,4.8; G10 -2.4,4.8; G11 -1.6,4.8; G12 -0.8,4.8; G13 0,4.8; G14 0.8,4.8; G15 1.6,4.8; G16 2.4,4.8; G17 3.2,4.8; G18 4,4.8; G19 4.8,4.8; G20 5.6,4.8; G21 6.4,4.8; G22 7.2,4.8; G23 8,4.8; G24 8.8,4.8; G25 9.6,4.8; H1 -9.6,4; H2 -8.8,4; H3 -8,4; H4 -7.2,4; H5 -6.4,4; H6 -5.6,4; H7 -4.8,4; H8 -4,4; H9 -3.2,4; H10 -2.4,4; H11 -1.6,4; H12 -0.8,4; H13 0,4; H14 0.8,4; H15 1.6,4; H16 2.4,4; H17 3.2,4; H18 4,4; H19 4.8,4; H20 5.6,4; H21 6.4,4; H22 7.2,4; H23 8,4; H24 8.8,4; H25 9.6,4; J1 -9.6,3.2; J2 -8.8,3.2; J3 -8,3.2; J4 -7.2,3.2; J5 -6.4,3.2; J6 -5.6,3.2; J7 -4.8,3.2; J8 -4,3.2; J9 -3.2,3.2; J10 -2.4,3.2; J11 -1.6,3.2; J12 -0.8,3.2; J13 0,3.2; J14 0.8,3.2; J15 1.6,3.2; J16 2.4,3.2; J17 3.2,3.2; J18 4,3.2; J19 4.8,3.2; J20 5.6,3.2; J21 6.4,3.2; J22 7.2,3.2; J23 8,3.2; J24 8.8,3.2; J25 9.6,3.2; K1 -9.6,2.4; K2 -8.8,2.4; K3 -8,2.4; K4 -7.2,2.4; K5 -6.4,2.4; K6 -5.6,2.4; K7 -4.8,2.4; K8 -4,2.4; K9 -3.2,2.4; K10 -2.4,2.4; K11 -1.6,2.4; K12 -0.8,2.4; K13 0,2.4; K14 0.8,2.4; K15 1.6,2.4; K16 2.4,2.4; K17 3.2,2.4; K18 4,2.4; K19 4.8,2.4; K20 5.6,2.4; K21 6.4,2.4; K22 7.2,2.4; K23 8,2.4; K24 8.8,2.4; K25 9.6,2.4; L1 -9.6,1.6; L2 -8.8,1.6; L3 -8,1.6; L4 -7.2,1.6; L5 -6.4,1.6; L6 -5.6,1.6; L7 -4.8,1.6; L8 -4,1.6; L9 -3.2,1.6; L10 -2.4,1.6; L11 -1.6,1.6; L12 -0.8,1.6; L13 0,1.6; L14 0.8,1.6; L15 1.6,1.6; L16 2.4,1.6; L17 3.2,1.6; L18 4,1.6; L19 4.8,1.6; L20 5.6,1.6; L21 6.4,1.6; L22 7.2,1.6; L23 8,1.6; L24 8.8,1.6; L25 9.6,1.6; M1 -9.6,0.8; M2 -8.8,0.8; M3 -8,0.8; M4 -7.2,0.8; M5 -6.4,0.8; M6 -5.6,0.8; M7 -4.8,0.8; M8 -4,0.8; M9 -3.2,0.8; M10 -2.4,0.8; M11 -1.6,0.8; M12 -0.8,0.8; M13 0,0.8; M14 0.8,0.8; M15 1.6,0.8; M16 2.4,0.8; M17 3.2,0.8; M18 4,0.8; M19 4.8,0.8; M20 5.6,0.8; M21 6.4,0.8; M22 7.2,0.8; M23 8,0.8; M24 8.8,0.8; M25 9.6,0.8; N1 -9.6,0; N2 -8.8,0; N3 -8,0; N4 -7.2,0; N5 -6.4,0; N6 -5.6,0; N7 -4.8,0; N8 -4,0; N9 -3.2,0; N10 -2.4,0; N11 -1.6,0; N12 -0.8,0; N13 0,0; N14 0.8,0; N15 1.6,0; N16 2.4,0; N17 3.2,0; N18 4,0; N19 4.8,0; N20 5.6,0; N21 6.4,0; N22 7.2,0; N23 8,0; N24 8.8,0; N25 9.6,0; P1 -9.6,-0.8; P2 -8.8,-0.8; P3 -8,-0.8; P4 -7.2,-0.8; P5 -6.4,-0.8; P6 -5.6,-0.8; P7 -4.8,-0.8; P8 -4,-0.8; P9 -3.2,-0.8; P10 -2.4,-0.8; P11 -1.6,-0.8; P12 -0.8,-0.8; P13 0,-0.8; P14 0.8,-0.8; P15 1.6,-0.8; P16 2.4,-0.8; P17 3.2,-0.8; P18 4,-0.8; P19 4.8,-0.8; P20 5.6,-0.8; P21 6.4,-0.8; P22 7.2,-0.8; P23 8,-0.8; P24 8.8,-0.8; P25 9.6,-0.8; R1 -9.6,-1.6; R2 -8.8,-1.6; R3 -8,-1.6; R4 -7.2,-1.6; R5 -6.4,-1.6; R6 -5.6,-1.6; R7 -4.8,-1.6; R8 -4,-1.6; R9 -3.2,-1.6; R10 -2.4,-1.6; R11 -1.6,-1.6; R12 -0.8,-1.6; R13 0,-1.6; R14 0.8,-1.6; R15 1.6,-1.6; R16 2.4,-1.6; R17 3.2,-1.6; R18 4,-1.6; R19 4.8,-1.6; R20 5.6,-1.6; R21 6.4,-1.6; R22 7.2,-1.6; R23 8,-1.6; R24 8.8,-1.6; R25 9.6,-1.6; T1 -9.6,-2.4; T2 -8.8,-2.4; T3 -8,-2.4; T4 -7.2,-2.4; T5 -6.4,-2.4; T6 -5.6,-2.4; T7 -4.8,-2.4; T8 -4,-2.4; T9 -3.2,-2.4; T10 -2.4,-2.4; T11 -1.6,-2.4; T12 -0.8,-2.4; T13 0,-2.4; T14 0.8,-2.4; T15 1.6,-2.4; T16 2.4,-2.4; T17 3.2,-2.4; T18 4,-2.4; T19 4.8,-2.4; T20 5.6,-2.4; T21 6.4,-2.4; T22 7.2,-2.4; T23 8,-2.4; T24 8.8,-2.4; T25 9.6,-2.4; U1 -9.6,-3.2; U2 -8.8,-3.2; U3 -8,-3.2; U4 -7.2,-3.2; U5 -6.4,-3.2; U6 -5.6,-3.2; U7 -4.8,-3.2; U8 -4,-3.2; U9 -3.2,-3.2; U10 -2.4,-3.2; U11 -1.6,-3.2; U12 -0.8,-3.2; U13 0,-3.2; U14 0.8,-3.2; U15 1.6,-3.2; U16 2.4,-3.2; U17 3.2,-3.2; U18 4,-3.2; U19 4.8,-3.2; U20 5.6,-3.2; U21 6.4,-3.2; U22 7.2,-3.2; U23 8,-3.2; U24 8.8,-3.2; U25 9.6,-3.2; V1 -9.6,-4; V2 -8.8,-4; V3 -8,-4; V4 -7.2,-4; V5 -6.4,-4; V6 -5.6,-4; V7 -4.8,-4; V8 -4,-4; V9 -3.2,-4; V10 -2.4,-4; V11 -1.6,-4; V12 -0.8,-4; V13 0,-4; V14 0.8,-4; V15 1.6,-4; V16 2.4,-4; V17 3.2,-4; V18 4,-4; V19 4.8,-4; V20 5.6,-4; V21 6.4,-4; V22 7.2,-4; V23 8,-4; V24 8.8,-4; V25 9.6,-4; W1 -9.6,-4.8; W2 -8.8,-4.8; W3 -8,-4.8; W4 -7.2,-4.8; W5 -6.4,-4.8; W6 -5.6,-4.8; W7 -4.8,-4.8; W8 -4,-4.8; W9 -3.2,-4.8; W10 -2.4,-4.8; W11 -1.6,-4.8; W12 -0.8,-4.8; W13 0,-4.8; W14 0.8,-4.8; W15 1.6,-4.8; W16 2.4,-4.8; W17 3.2,-4.8; W18 4,-4.8; W19 4.8,-4.8; W20 5.6,-4.8; W21 6.4,-4.8; W22 7.2,-4.8; W23 8,-4.8; W24 8.8,-4.8; W25 9.6,-4.8; Y1 -9.6,-5.6; Y2 -8.8,-5.6; Y3 -8,-5.6; Y4 -7.2,-5.6; Y5 -6.4,-5.6; Y6 -5.6,-5.6; Y7 -4.8,-5.6; Y8 -4,-5.6; Y9 -3.2,-5.6; Y10 -2.4,-5.6; Y11 -1.6,-5.6; Y12 -0.8,-5.6; Y13 0,-5.6; Y14 0.8,-5.6; Y15 1.6,-5.6; Y16 2.4,-5.6; Y17 3.2,-5.6; Y18 4,-5.6; Y19 4.8,-5.6; Y20 5.6,-5.6; Y21 6.4,-5.6; Y22 7.2,-5.6; Y23 8,-5.6; Y24 8.8,-5.6; Y25 9.6,-5.6